# Altium schematic symbol library Schlib_Silergy.SchLib: 8 symbols
Pins are listed as number, name and electrical type; pins without a type are passive.

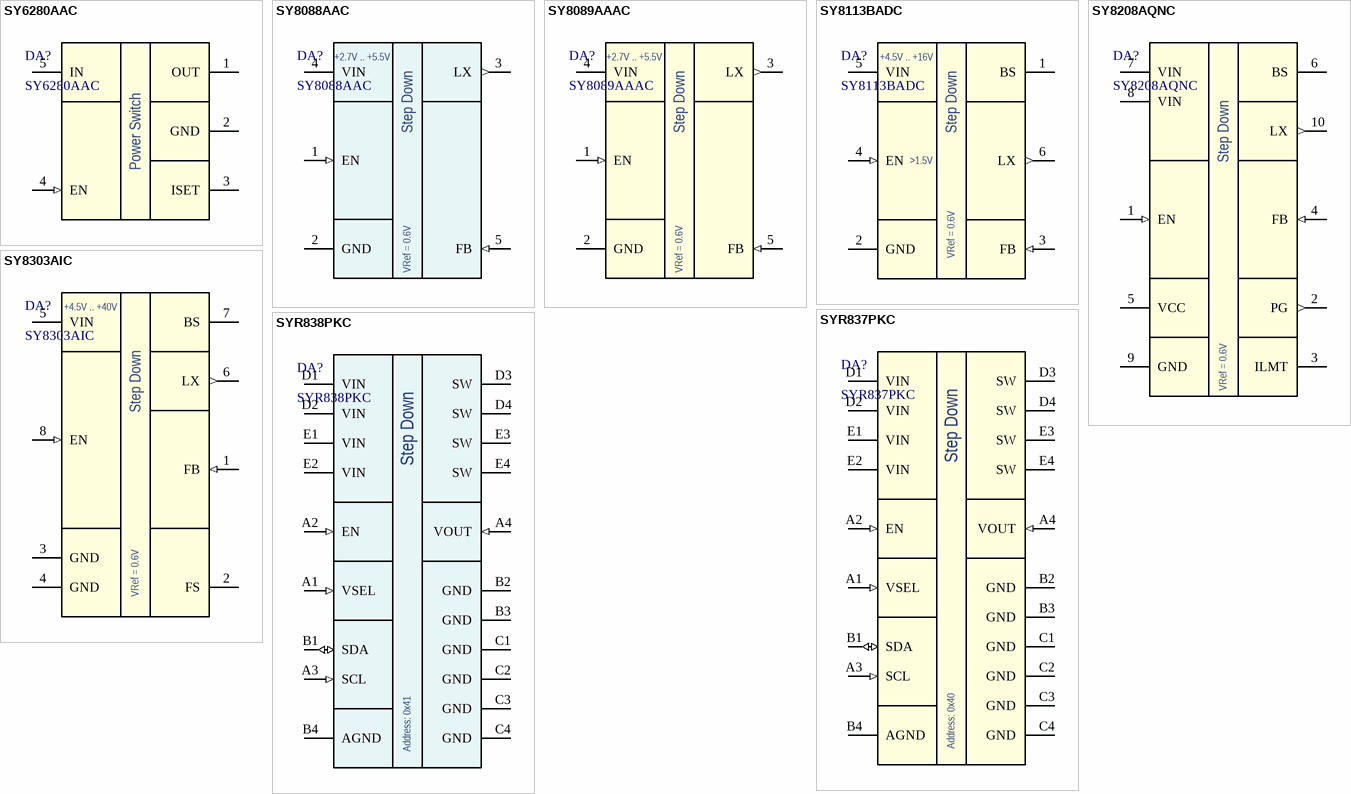
[diagram p0: symbols SY6280AAC to SYR838PKC]

## SY6280AAC
designator DA?
Power Distribution Switch; Manufacturer: Silergy Corp.; Part Number: SY6280AAC; Package: SOT23-5
footprint SOT23-5 (SOT23, 6-Leads, Body 2.90x2.80mm, Pitch 0.95mm, IPC Medium Density)
pins: 1 OUT (power), 2 GND (power), 3 ISET, 4 EN (in), 5 IN (power)
text: Power Switch

## SY8088AAC
designator DA?
High Efficiency 5.5V, 2A continuous, 3A peak, 1MHz Synchronous Step Down Regulator; Manufacturer: Silergy Corp.; Part Number: SY8088AAC; Package: TSOT23-8
footprint SOT23-5 (SOT23, 6-Leads, Body 2.90x2.80mm, Pitch 0.95mm, IPC Medium Density)
pins: 1 EN (in), 2 GND (power), 3 LX (out), 4 VIN (power), 5 FB (in)
text: +2.7V .. +5.5V; Step Down; VRef = 0.6V

## SY8089AAAC
designator DA?
High Efficiency 5.5V, 2A continuous, 3A peak, 1MHz Synchronous Step Down Regulator; Manufacturer: Silergy Corp.; Part Number: SY8089AAAC; Package: TSOT23-8
footprint SOT23-5 (SOT23, 6-Leads, Body 2.90x2.80mm, Pitch 0.95mm, IPC Medium Density)
pins: 1 EN (in), 2 GND (power), 3 LX (out), 4 VIN (power), 5 FB (in)
text: +2.7V .. +5.5V; Step Down; VRef = 0.6V

## SY8113BADC
designator DA?
High Efficiency, 500kHz, 3A, 18V Input Synchronous Step Down Regulator; Manufacturer: Silergy Corp.; Part Number: SY8113BADC; Package: TSOT23-6
footprint TSOT23-6
pins: 1 BS, 2 GND (power), 3 FB (in), 4 EN (in), 5 VIN (power), 6 LX (out)
text: +4.5V .. +16V; Step Down; >1.5V; VRef = 0.6V

## SY8208AQNC
designator DA?
High Efficiency Fast Response 8A Continuous, 16A Peak, 28V Input Synchronous Step Down Regulator; Manufacturer: Silergy Corp.; Part Number: SY8208AQNC; Package: QFN3x3-10 FC
footprint QFN3x3_10FC (Power QFN 3mm x 3mm)
pins: 1 EN (in), 2 PG (out), 3 ILMT, 4 FB (in), 5 VCC (power), 6 BS, 7 VIN (power), 8 VIN (power), 9 GND (power), 10 LX (out)
text: Step Down; VRef = 0.6V

## SY8303AIC
designator DA?
High Efficiency Fast Response, 3A, 40V Input Synchronous Step Down Regulator; Manufacturer: Silergy Corp.; Part Number: SY8303AIC; Package: TSOT23-8
footprint SOT23-8 (SOT23-8, 8-Leads, Body 2,90x1,63mm, Pitch 0,65mm, IPC Medium Density)
pins: 1 FB (in), 2 FS, 3 GND (power), 4 GND (power), 5 VIN (power), 6 LX (out), 7 BS, 8 EN (in)
text: +4.5V .. +40V; Step Down; VRef = 0.6V

## SYR837PKC
designator DA?
High Efficiency 5.5V, 6A, 2.4MHz, I2C Programmable, Synchronous Step Down Regulator; Manufacturer: Silergy Corp.; Part Number: SYR837PKC; Package: CSP-20
footprint CSP-20 (20-ball package, 1.56x1.96mm)
pins: A1 VSEL (in), A2 EN (in), A3 SCL (in), A4 VOUT (in), B1 SDA (io), B2 GND (power), B3 GND (power), B4 AGND (power), C1 GND (power), C2 GND (power), C3 GND (power), C4 GND (power), D1 VIN (power), D2 VIN (power), D3 SW (power), D4 SW (power), E1 VIN (power), E2 VIN (power), E3 SW (power), E4 SW (power)
text: Step Down; Address: 0x40

## SYR838PKC
designator DA?
High Efficiency 5.5V, 6A, 2.4MHz, I2C Programmable, Synchronous Step Down Regulator; Manufacturer: Silergy Corp.; Part Number: SYR838PKC; Package: CSP-20
footprint CSP-20 (20-ball package, 1.56x1.96mm)
pins: A1 VSEL (in), A2 EN (in), A3 SCL (in), A4 VOUT (in), B1 SDA (io), B2 GND (power), B3 GND (power), B4 AGND (power), C1 GND (power), C2 GND (power), C3 GND (power), C4 GND (power), D1 VIN (power), D2 VIN (power), D3 SW (power), D4 SW (power), E1 VIN (power), E2 VIN (power), E3 SW (power), E4 SW (power)
text: Step Down; Address: 0x41